# EAGLE library part SPV1040 (library df4iah_powersupply)
SPV1040 High efficiency solar battery charger with embedded MPPT
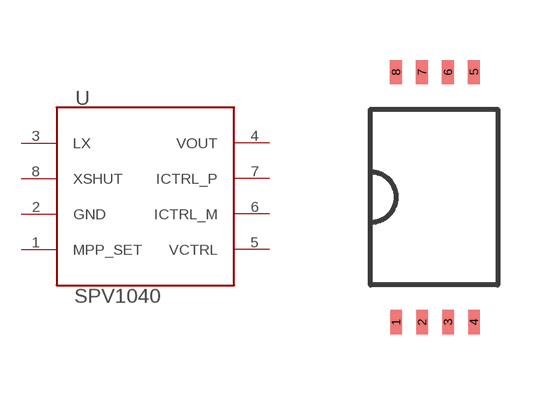
[diagram p1: symbol with the pads of TSSOP8; footprint TSSOP8]

Designator prefix -

## SPV1040  [TSSOP8]
1  MPP_SET  pwr
2  GND  pas
3  LX  pas
4  VOUT  sup
5  VCTRL  pas
6  ICTRL_M  pas
7  ICTRL_P  pas
8  XSHUT  pas

## Footprint TSSOP8 (pad centres in mm)
TSSOP 8
smd 0.305 x 0.61: 1 -0.892,-3.13; 2 -0.242,-3.13; 3 0.407,-3.13; 4 1.058,-3.13; 5 1.058,3.13; 6 0.407,3.13; 7 -0.242,3.13; 8 -0.892,3.13